# Altium schematic symbol library yimian.SchLib: 11 symbols
Pins are listed as number, name and electrical type; pins without a type are passive.

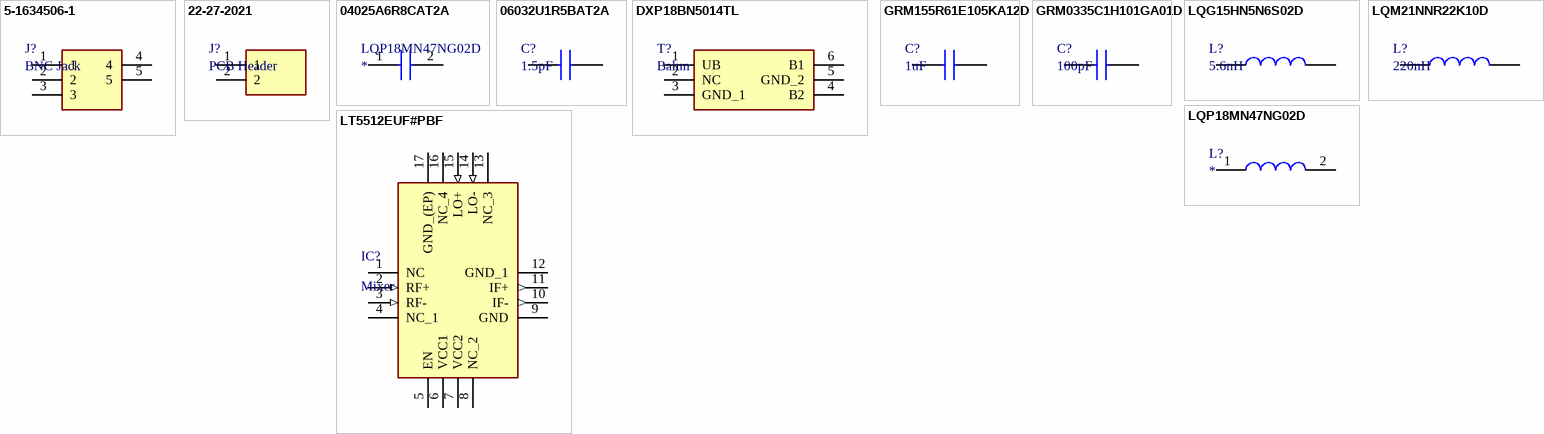
[diagram p0: symbols 5-1634506-1 to LT5512EUF#PBF]

## 5-1634506-1
designator J?, comment BNC Jack
Connector; Manufacturer_Name: TE Connectivity; Manufacturer_Part_Number: 5-1634506-1; Allied_Number: 70084638; Datasheet Link: http://www.te.com/commerce/DocumentDelivery/DDEController?Action=showdoc&DocId=Customer+Drawing%7F1634506%7FC%7Fpdf%7FEnglish%7FENG_CD_1634506_C.pdf%7F5-1634506-1.pdf; Mouser Part Number: 571-5-1634506-1; Mouser Price/Stock: https://www.mouser.com/Search/Refine.aspx?Keyword=571-5-1634506-1; RS Part Number: 1864825; RS Price/Stock: http://uk.rs-online.com/web/p/products/1864825; Allied Price/Stock: http://www.alliedelec.com/te-connectivity-5-1634506-1/70084638/
footprint 5-1634506-1
pins: 1, 2, 3, 4, 5

## 22-27-2021
designator J?, comment PCB Header
Connector; Manufacturer_Name: Molex; Datasheet Link: http://uk.rs-online.com/web/p/pcb-headers/4838461/?source=DS; Height: 11.18mm; Manufacturer_Part_Number: 22-27-2021; Mouser Part Number: 538-22-27-2021; Mouser Price/Stock: https://www.mouser.com/Search/Refine.aspx?Keyword=538-22-27-2021; RS Part Number: 1891397; RS Price/Stock: http://uk.rs-online.com/web/p/products/1891397
footprint HDRV2W64P254_2X1_508X580H1118
pins: 1, 2

## 04025A6R8CAT2A
designator LQP18MN47NG02D
Capacitor; Manufacturer_Name: AVX; Manufacturer_Part_Number: 04025A6R8CAT2A; Description: Capacitor MLCC 0402 6.8pF 50V AVX 0402 Standard 6.8pF Ceramic Multilayer Capacitor; Allied_Number: 70002038; Datasheet Link: http://www.mouser.com/catalog/supplier/library/pdf/AVXSurfaceMountCeramic.pdf; Height: 0.56mm; Mouser Part Number: 581-04025A6R8C; Mouser Price/Stock: https://www.mouser.com/Search/Refine.aspx?Keyword=581-04025A6R8C; RS Part Number: 6983125; RS Price/Stock: https://uk.rs-online.com/web/p/products/6983125; Allied Price/Stock: https://www.alliedelec.com/avx-04025a6r8cat2a/70002038/
footprint CAPC1005X56N
pins: 1, 2

## 06032U1R5BAT2A
designator C?, comment 1.5pF
Capacitor; Manufacturer_Name: AVX; Manufacturer_Part_Number: 06032U1R5BAT2A; Allied_Number: 70473499; Datasheet Link: http://www.mouser.com/catalog/supplier/library/pdf/AVXSurfaceMountCeramic.pdf; Height: 0.9mm; Mouser Part Number: 581-06032U1R5BAT2A; Mouser Price/Stock: http://www.mouser.com/Search/ProductDetail.aspx?qs=HHtk9%2fstK94%2fdhQq%2fiZoHQ%3d%3d; RS Part Number: 6983986; RS Price/Stock: https://uk.rs-online.com/web/p/products/6983986; Allied Price/Stock: https://www.alliedelec.com/avx-06032u1r5bat2a/70473499/
footprint CAPC1608X90N
pins: 1, 2

## DXP18BN5014TL
designator T?, comment Balun
Transformer; Manufacturer_Name: Murata Electronics; Manufacturer_Part_Number: DXP18BN5014TL; Datasheet Link: https://www.murata.com/en-us/products/productdata/8796776071198/EFKA0002.pdf; Height: 0.55mm; Mouser Part Number: 81-DXP18BN5014TL; Mouser Price/Stock: https://www.mouser.com/Search/Refine.aspx?Keyword=81-DXP18BN5014TL; RS Part Number: 8390904P; RS Price/Stock: http://uk.rs-online.com/web/p/products/8390904P
footprint DXP18BN5014TL
pins: 1 UB, 2 NC, 3 GND_1, 4 B2, 5 GND_2, 6 B1

## GRM155R61E105KA12D
designator C?, comment 1uF
Capacitor; Manufacturer_Name: Murata Electronics; Manufacturer_Part_Number: GRM155R61E105KA12D; Datasheet Link: https://psearch.en.murata.com/capacitor/product/GRM155R61E105KA12%23.html; Height: 0.55mm; Mouser Part Number: 81-GRM155R61E105KA2D; Mouser Price/Stock: https://www.mouser.com/Search/Refine.aspx?Keyword=81-GRM155R61E105KA2D; RS Part Number: 8467287P; RS Price/Stock: http://uk.rs-online.com/web/p/products/8467287P
footprint CAPC1005X55N
pins: 1, 2

## GRM0335C1H101GA01D
designator C?, comment 100pF
Capacitor; Manufacturer_Name: Murata Electronics; Manufacturer_Part_Number: GRM0335C1H101GA01D; Datasheet Link: http://www.murata.com/~/media/webrenewal/support/library/catalog/products/capacitor/mlcc/c02e.pdf; Height: 0.33mm; Mouser Part Number: 81-GRM0335C1H101GA1D; Mouser Price/Stock: https://www.mouser.com/Search/Refine.aspx?Keyword=81-GRM0335C1H101GA1D; RS Part Number: 1692726; RS Price/Stock: https://uk.rs-online.com/web/p/products/1692726
footprint CAPC0603X33N
pins: 1, 2

## LQG15HN5N6S02D
designator L?, comment 5.6nH
Inductor; Manufacturer_Name: Murata Electronics; Manufacturer_Part_Number: LQG15HN5N6S02D; Datasheet Link: https://psearch.en.murata.com/inductor/product/LQG15HN5N6S02%23.html; Height: 0.55mm; Mouser Part Number: 81-LQG15HN5N6S02D; Mouser Price/Stock: https://www.mouser.com/Search/Refine.aspx?Keyword=81-LQG15HN5N6S02D; RS Part Number: 0105580; RS Price/Stock: http://uk.rs-online.com/web/p/products/0105580
footprint INDC1005X55N
pins: 1, 2

## LQM21NNR22K10D
designator L?, comment 220nH
Inductor; Manufacturer_Name: Murata Electronics; Manufacturer_Part_Number: LQM21NNR22K10D; Datasheet Link: https://psearch.en.murata.com/inductor/product/LQM21NNR22K10%23.html; Height: 1.05mm; Mouser Part Number: 81-LQG21NR22K10; Mouser Price/Stock: https://www.mouser.com/Search/Refine.aspx?Keyword=81-LQG21NR22K10; RS Part Number: 7242756; RS Price/Stock: https://uk.rs-online.com/web/p/products/7242756
footprint INDC2012X105N
pins: 1, 2

## LQP18MN47NG02D
designator L?
Inductor; Manufacturer_Name: Murata Electronics; Manufacturer_Part_Number: LQP18MN47NG02D; Description: Murata LQW18F Series 47 nH +/-2% Ferrite Multilayer SMD Inductor; Datasheet Link: https://psearch.en.murata.com/inductor/product/LQP18MN47NG02%23.html; Height: 0.6mm; Mouser Part Number: 81-LQP18MN47NG02D; Mouser Price/Stock: https://www.mouser.com/Search/Refine.aspx?Keyword=81-LQP18MN47NG02D; RS Part Number: 7859225P; RS Price/Stock: http://uk.rs-online.com/web/p/products/7859225P
footprint INDC1608X60N
pins: 1, 2

## LT5512EUF#PBF
designator IC?, comment Mixer
Integrated Circuit; Manufacturer_Name: Linear Technology; Manufacturer_Part_Number: LT5512EUF#PBF; Datasheet Link: http://cds.linear.com/docs/en/datasheet/5512fa.pdf; Height: 0.8mm; RS Part Number: 5060861P; RS Price/Stock: http://uk.rs-online.com/web/p/products/5060861P
footprint QFN65P400X400X80-17N-D
pins: 1 NC, 2 RF+ (in), 3 RF- (in), 4 NC_1, 5 EN, 6 VCC1 (power), 7 VCC2 (power), 8 NC_2, 9 GND (power), 10 IF- (out), 11 IF+ (out), 12 GND_1 (power), 13 NC_3, 14 LO- (in), 15 LO+ (in), 16 NC_4, 17 GND_(EP) (power)